# Altium footprint library DF10M.PcbLib: 1 footprints
Each footprint in its own frame and in the unit in brackets; x right, y up, seen from the top. Pads: shape width x height; smd on the part's side, far side on the other; paste and mask are expansions set on the pad; w line width, h text height; cw(c..) or ccw(c..) is an arc to the next point about the centre after c.
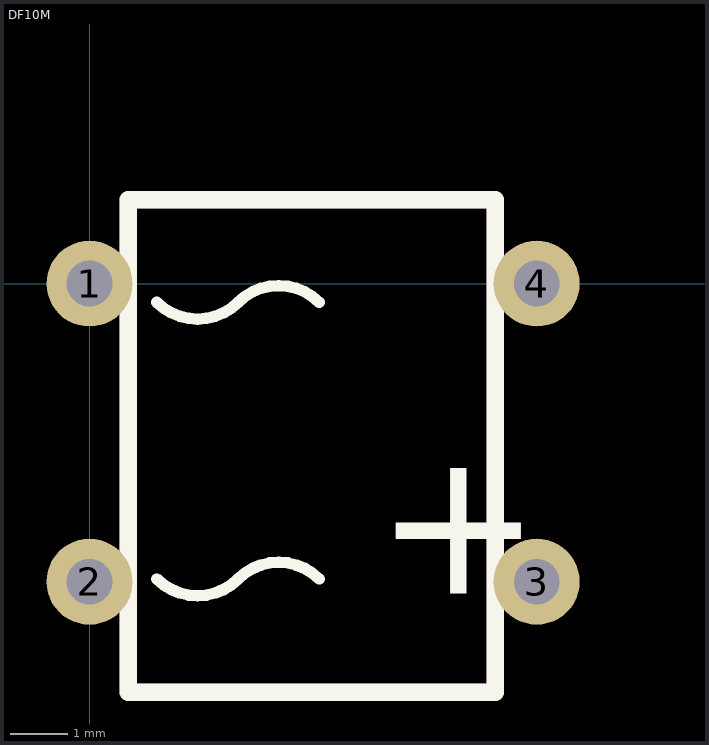
[diagram p0: the footprint, top view; thin cyan lines are the x and y axes]

## DF10M [mm]
pads (4):
  round 1.5 hole 0.8 unplated: 1(0,0) 2(0,-5.2) 3(7.8,-5.2) 4(7.8,0)
Top Overlay:
  lines w0.2: 1.177,-5.153 ccw(c1.884,-4.446) 2.591,-5.153 cw(c3.298,-5.86) 4.005,-5.153 ; 1.177,-0.327 ccw(c1.884,0.38) 2.591,-0.327 cw(c3.298,-1.034) 4.005,-0.327
  lines w0.3: 0.677,-7.127 0.677,1.463 7.077,1.463 7.077,-7.127 0.677,-7.127
  text "-" at 4.977,-1.027 h5
  text "+" at 4.977,-6.361 h5
TopAssy:
  lines w0.3: 0.677,-7.127 0.677,1.463 7.077,1.463 7.077,-7.127 0.677,-7.127
3D body "User Library-Silicon Bridge Rectifiers DF10.step": height 3.65, standoff -3.16, extent -0.046,-6.689 7.874,1.511